# Altium footprint library button_bat.PcbLib: 1 footprints
Each footprint in its own frame and in the unit in brackets; x right, y up, seen from the top. Pads: shape width x height; smd on the part's side, far side on the other; paste and mask are expansions set on the pad; w line width, h text height; cw(c..) or ccw(c..) is an arc to the next point about the centre after c.
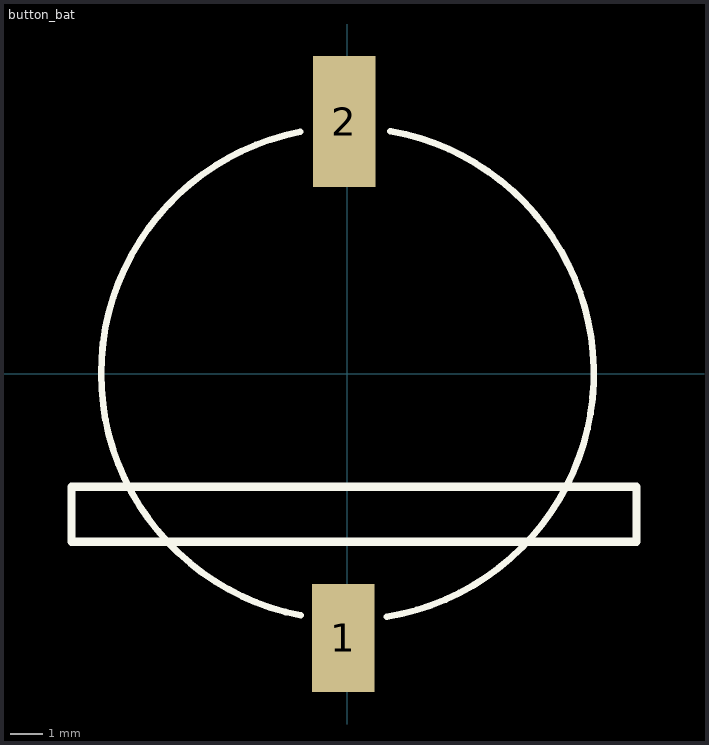
[diagram p0: the footprint, top view; thin cyan lines are the x and y axes]

## button_bat [mm]
pads (2):
  rect 1.9x3.3 smd: 1(-0.125,-8.05)
  rect 1.9x4 smd: 2(-0.1,7.675)
Top Overlay:
  lines w0.2: -1.437,7.361 ccw(c0,0) -1.428,-7.363 ; 1.201,-7.403 ccw(c0,0) 1.311,7.385
  lines w0.254: -8.4,-5.125 -8.4,-3.45 8.8,-3.45 8.8,-5.125 -8.4,-5.125